# EAGLE library part IRF7105 (library spietz-library-2)
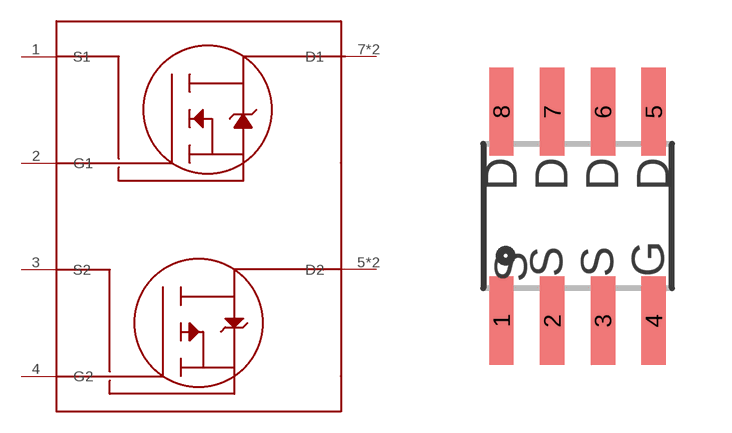
[diagram p21: symbol with the pads of IRF-7862; footprint IRF-7862]

Designator prefix -

## IRF7105  [IRF-7862]
1  S1
2  G1
3  S2
4  G2
5  D2
6  D2
7  D1
8  D1

## Footprint IRF-7862 (pad centres in mm)
smd 0.61 x 2.21: 1 -1.905,-2.616; 2 -0.635,-2.616; 3 0.635,-2.616; 4 1.905,-2.616; 5 1.905,2.616; 6 0.635,2.616; 7 -0.635,2.616; 8 -1.905,2.616